# Altium schematic symbol library RJ45_UNSHIELDED_LEDS.Schlib: 1 symbol
Pins are listed as number, name and electrical type; pins without a type are passive.

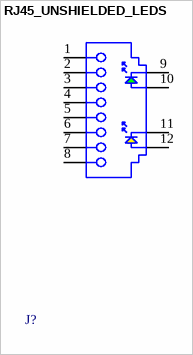
[diagram p0: symbol RJ45_UNSHIELDED_LEDS]

## RJ45_UNSHIELDED_LEDS
designator J?
Modular Jack Unshielded 8P8C with LED Y/G
pins: 1, 2, 3, 4, 5, 6, 7, 8, 9, 10, 11, 12